# EAGLE library part OVM7692-RYAA (library PCB_Components)
Feature Rich VGA Camera Cube Chip Source: Datasheet <https://www.arrow.com/en/products/ovm7692-ryaa/omnivision-technologies>
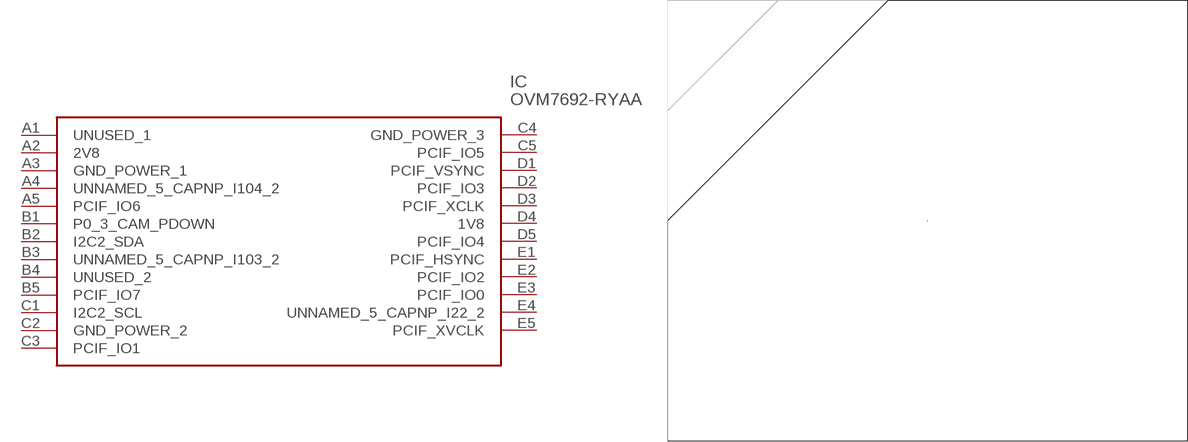
[diagram p12: symbol with the pads of BGA25C50P5X5_347000X295000X276; footprint BGA25C50P5X5_347000X295000X276]

Designator prefix IC

## OVM7692-RYAA (DESCRIPTION: Feature Rich VGA Camera Cube Chip; HEIGHT: 2760.05mm; MANUFACTURER_NAME: OmniVision Technologies Inc; MANUFACTURER_PART_NUMBER: OVM7692-RYAA)  [BGA25C50P5X5_347000X295000X276]
A1  UNUSED_1
A2  2V8  pwr
A3  GND_POWER_1  pwr
A4  UNNAMED_5_CAPNP_I104_2
A5  PCIF_IO6
B1  P0_3_CAM_PDOWN
B2  I2C2_SDA
B3  UNNAMED_5_CAPNP_I103_2
B4  UNUSED_2
B5  PCIF_IO7
C1  I2C2_SCL
C2  GND_POWER_2
C3  PCIF_IO1
C4  GND_POWER_3  pwr
C5  PCIF_IO5
D1  PCIF_VSYNC
D2  PCIF_IO3
D3  PCIF_XCLK
D4  1V8  pwr
D5  PCIF_IO4
E1  PCIF_HSYNC
E2  PCIF_IO2
E3  PCIF_IO0
E4  UNNAMED_5_CAPNP_I22_2
E5  PCIF_XVCLK

## Footprint BGA25C50P5X5_347000X295000X276 (pad centres in mm)
OVM7692-RYAA
smd 0.383 x 0.383: A1 -1.1,1; A2 -0.55,1; A3 0,1; A4 0.55,1; A5 1.1,1; B1 -1.1,0.5; B2 -0.55,0.5; B3 0,0.5; B4 0.55,0.5; B5 1.1,0.5; C1 -1.1,0; C2 -0.55,0; C3 0,0; C4 0.55,0; C5 1.1,0; D1 -1.1,-0.5; D2 -0.55,-0.5; D3 0,-0.5; D4 0.55,-0.5; D5 1.1,-0.5; E1 -1.1,-1; E2 -0.55,-1; E3 0,-1; E4 0.55,-1; E5 1.1,-1